# Altium schematic symbol library Lm358.SchLib: 1 symbol
Pins are listed as number, name and electrical type; pins without a type are passive.

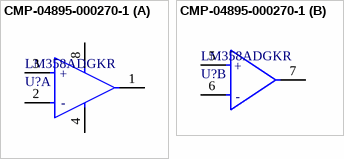
[diagram p0: symbol CMP-04895-000270-1]

## CMP-04895-000270-1
designator U?, comment LM358ADGKR
IC OPAMP GP 2 CIRCUIT 8VSSOP; Nominal Supply Current: 1.2mA; Min Supply Voltage: 3V; Operating Supply Current: 1mA; Slew Rate: 0.3V/µs; Number of Channels: 2; Unity Gain Bandwidth Product: 700kHz; Input Bias Current: 100nA; Voltage Gain: 100dB; Amplifier Type: GENERAL PURPOSE; Max Supply Voltage: 32V; Dual Supply Voltage: 9V; Input Offset Voltage (Vos): 3mV; Output Current: 30mA; Min Dual Supply Voltage: 1.5V; Common Mode Rejection Ratio: 65dB; Operating Supply Voltage: 16V; Series: -; Height: 0.97mm; Number of Amplifiers: 2; Number of Elements: 2; Length: 3mm; Number of Pins: 8; Bandwidth: 700kHz; RoHS Compliant: Yes; Number of Circuits: 2; Output Current per Channel: 30mA; Technology: BIPOLAR; Min Operating Temperature: 0°C; Supply Current: 1.2mA; Radiation Hardening: No; Max Operating Temperature: 70°C; Mount: Surface Mount; Gain Bandwidth Product: 700kHz; Width: 3mm; Packaging: Tape and Reel; Max Dual Supply Voltage: 16V; Case/Package: VSSOP; Lead Free: Lead Free; Package Quantity: 2500; REACH SVHC: No SVHC
footprint FP-DGK0008A-IPC_A
footprint FP-DGK0008A-IPC_B
footprint FP-DGK0008A-IPC_C
footprint FP-DGK0008A-MFG
part A pins: 1 OUT1, 2 IN1- (hiz), 3 IN1+ (hiz), 4 V- (power), 8 V+ (power)
part B pins: 5 IN2+ (hiz), 6 IN2- (hiz), 7 OUT2
part A text: +
part B text: +